# Altium footprint library SMT wire in.PcbLib: 1 footprints
Each footprint in its own frame and in the unit in brackets; x right, y up, seen from the top. Pads: shape width x height; smd on the part's side, far side on the other; paste and mask are expansions set on the pad; w line width, h text height; cw(c..) or ccw(c..) is an arc to the next point about the centre after c.
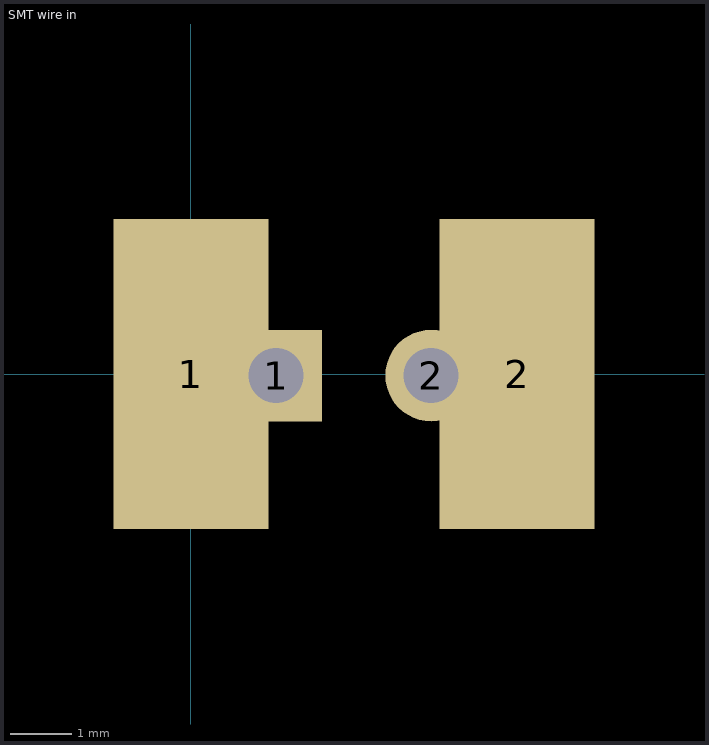
[diagram p0: the footprint, top view; thin cyan lines are the x and y axes]

## SMT wire in [mm]
pads (4):
  rect 2.54x5.08 smd: 1(0,0) 2(5.348,0)
  rect 1.5x1.5 hole 0.9: 1(1.397,-0.025)
  round 1.5 hole 0.9: 2(3.937,-0.025)